# Altium footprint library CRG1206F1M0.PcbLib: 1 footprints
Each footprint in its own frame and in the unit in brackets; x right, y up, seen from the top. Pads: shape width x height; smd on the part's side, far side on the other; paste and mask are expansions set on the pad; w line width, h text height; cw(c..) or ccw(c..) is an arc to the next point about the centre after c.
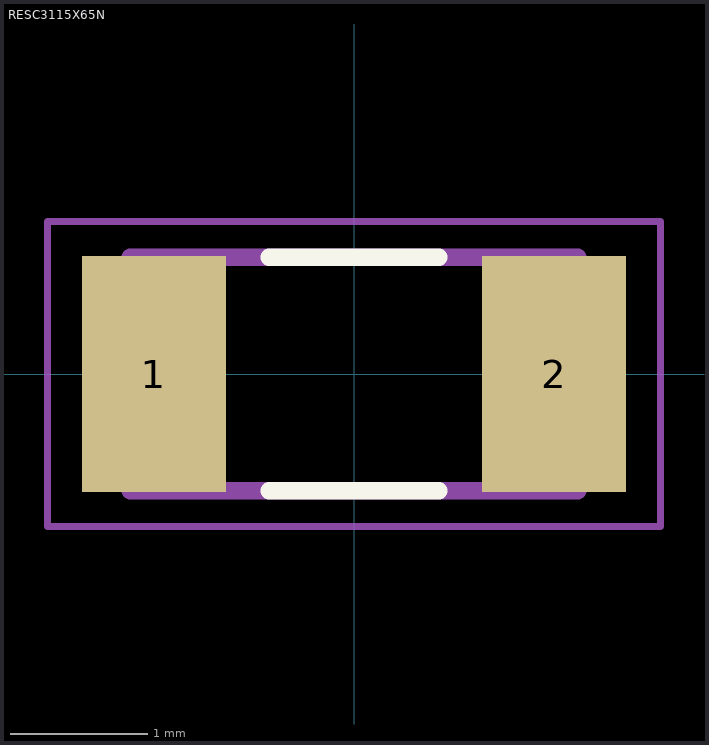
[diagram p0: the footprint, top view; thin cyan lines are the x and y axes]

## RESC3115X65N [mm]
pads (2):
  rect 1.05x1.72 smd: 1(-1.46,0) 2(1.46,0)
Top Overlay:
  lines w0.127: -0.62,-0.85 0.62,-0.85 ; -0.62,0.85 0.62,0.85
Mechanical 13:
  lines w0.127: -1.63,-0.85 -1.63,0.85 1.63,0.85 1.63,-0.85 -1.63,-0.85
  text "'.Designator'" at -0.662,1.476 h0.7
Mechanical 15:
  lines w0.05: -2.235,-1.112 -2.235,1.112 2.235,1.112 2.235,-1.112 -2.235,-1.112
3D body "step_temp.STEP": height 0.65, standoff 0, extent -1.55,-0.775 1.55,0.775